# EAGLE library part OLIMEX_CONNECTORS_TM211Q01FM22_SH (library A20-OLinuXino-Lime2_Rev_C)
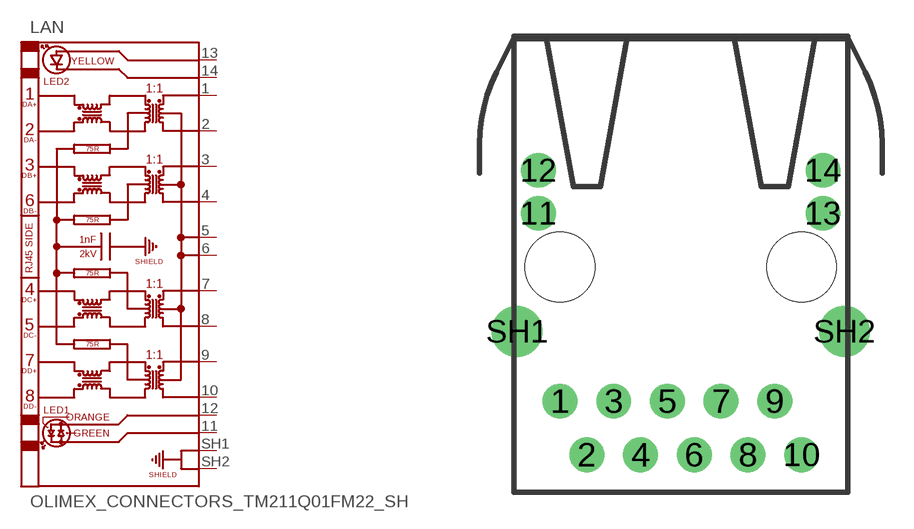
[diagram p4: symbol with the pads of OLIMEX_CONNECTORS_TM211Q01FM22_SH; footprint OLIMEX_CONNECTORS_TM211Q01FM22_SH]

Designator prefix LAN

## OLIMEX_CONNECTORS_TM211Q01FM22_SH  [OLIMEX_CONNECTORS_TM211Q01FM22_SH]
1  P1  in
2  P2  in
3  P3  in
4  P4  in
5  P5  in
6  P6  in
7  P7  in
8  P8  in
9  P9  in
10  P10  in
11  11  in
12  12  in
13  13  in
14  14  in
SH1  SH1  pwr
SH2  SH2  pwr

## Footprint OLIMEX_CONNECTORS_TM211Q01FM22_SH (pad centres in mm)
drill 1.1: 1 -5.715,-6.35; 2 -4.445,-8.89; 3 -3.175,-6.35; 4 -1.905,-8.89; 5 -0.635,-6.35; 6 0.635,-8.89; 7 1.905,-6.35; 8 3.175,-8.89; 9 4.445,-6.35; 10 5.715,-8.89; 11 -6.731,2.54; 12 -6.731,4.572; 13 6.731,2.54; 14 6.731,4.572
drill 1.6: SH1 -7.747,-3.048; SH2 7.747,-3.048
hole 3.3 at 5.715,0
hole 3.3 at -5.715,0